# Altium footprint library PCB - DIODES - TOSHIBA CUHZ.PCBLIB: 1 footprints
Each footprint in its own frame and in the unit in brackets; x right, y up, seen from the top. Pads: shape width x height; smd on the part's side, far side on the other; paste and mask are expansions set on the pad; w line width, h text height; cw(c..) or ccw(c..) is an arc to the next point about the centre after c.
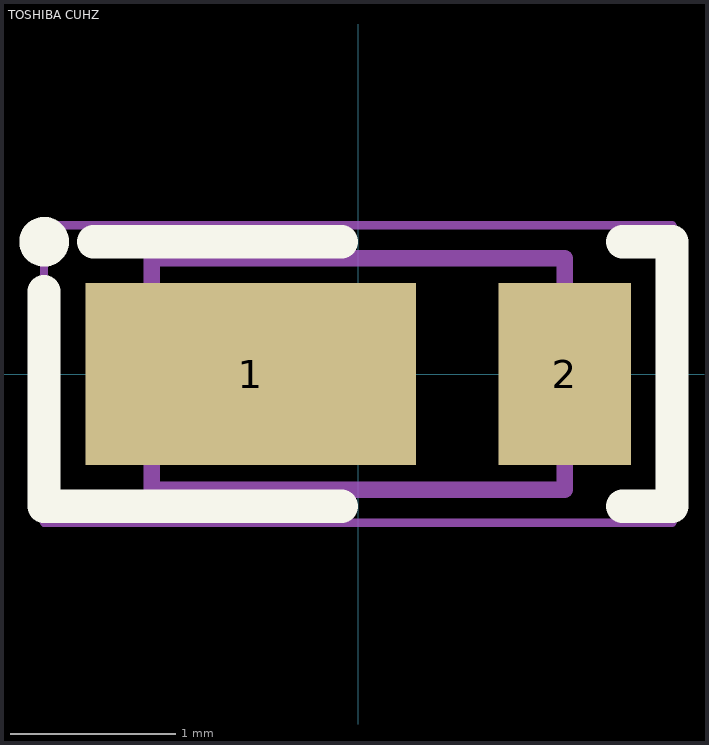
[diagram p0: the footprint, top view; thin cyan lines are the x and y axes]

## TOSHIBA CUHZ [mm] "Body 2.0x1.0"
height 0.68
pads (2):
  rect 2x1.1 smd: 1(-0.65,0)
  rect 0.8x1.1 smd: 2(1.25,0)
Top Overlay:
  circle w0.2: c-1.9,0.8 r0.05
  lines w0.2: -1.9,0.5 -1.9,-0.8 -0.1,-0.8 ; -1.6,0.8 -0.1,0.8 ; 1.6,-0.8 1.9,-0.8 1.9,0.8 1.6,0.8
Mechanical 13:
  lines w0.1: -1.25,-0.7 -1.25,0.7 1.25,0.7 1.25,-0.7 -1.25,-0.7
Mechanical 15:
  lines w0.05: -1.9,-0.9 -1.9,0.9 1.9,0.9 1.9,-0.9 -1.9,-0.9
  lines w0.1: -0.2,0 0.2,0 ; 0,-0.2 0,0.2
3D body "Toshiba - CUHZ.step": height 0.78, standoff 0, extent -1.25,-0.7 1.25,0.7